# EAGLE library part MICROSIM_SOCKET (library Scott-Connectors)
https://detail.tmall.com/item.htm?spm=a230r.1.14.13.35ab360dMATvut&id=525433574500&cm_id=140105335569ed55e27b&abbucket=1
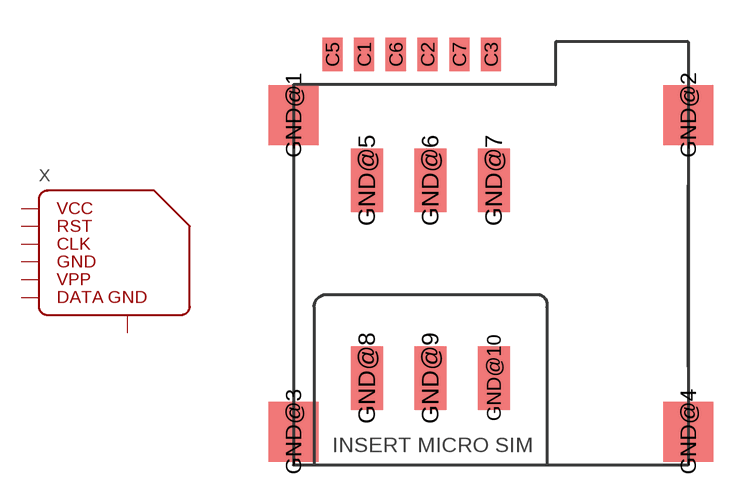
[diagram p3: symbol with the pads of MICROSIM_SOCKET; footprint MICROSIM_SOCKET]

Designator prefix X

## MICROSIM_SOCKET  [MICROSIM_SOCKET]
C1  C1  pwr
C2  C2  pas
C3  C3  pas
C5  C5  pwr
C6  C6  pas
C7  C7  pas
GND@1  GND  pwr
GND@2  GND  pwr
GND@3  GND  pwr
GND@4  GND  pwr
GND@5  GND  pwr
GND@6  GND  pwr
GND@7  GND  pwr
GND@8  GND  pwr
GND@9  GND  pwr
GND@10  GND  pwr

## Footprint MICROSIM_SOCKET (pad centres in mm)
https://detail.tmall.com/item.htm?spm=a230r.1.14.13.35ab360dMATvut&id=525433574500&cm_id=140105335569ed55e27b&abbucket=1
smd 0.8 x 1.35: C1 4.865,13.215; C2 7.405,13.215; C3 9.945,13.215; C5 3.595,13.215; C6 6.135,13.215; C7 8.675,13.215
smd 2 x 2.4: GND@1 2.035,10.79; GND@2 17.835,10.79; GND@3 2.035,-1.89; GND@4 17.835,-1.89
smd 1.27 x 2.54: GND@5 4.985,8.18; GND@6 7.525,8.18; GND@7 10.065,8.18; GND@8 4.985,0.26; GND@9 7.525,0.26; GND@10 10.065,0.26